# EAGLE library part MIKROBUS_TH (library mikroBUS_TH)
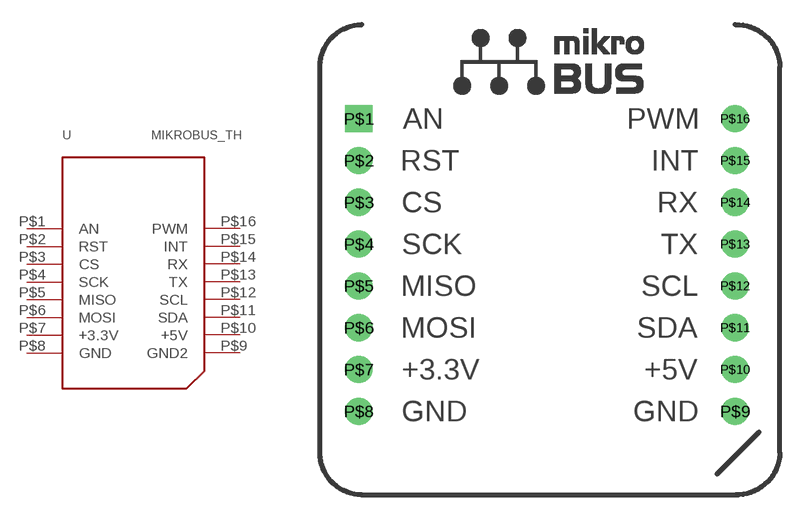
[diagram p0: symbol with the pads of MIKROBUS_TH; footprint MIKROBUS_TH]

Designator prefix -

## MIKROBUS_TH  [MIKROBUS_TH]
P$1  AN
P$2  RST
P$3  CS
P$4  SCK
P$5  MISO
P$6  MOSI
P$7  +3.3V
P$8  GND
P$9  GND2
P$10  +5V
P$11  SDA
P$12  SCL
P$13  TX
P$14  RX
P$15  INT
P$16  PWM

## Footprint MIKROBUS_TH (pad centres in mm)
drill 0.889 pad 1.651 square: P$1 1.27,0
drill 0.889 pad 1.651: P$2 1.27,-2.54; P$3 1.27,-5.08; P$4 1.27,-7.62; P$5 1.27,-10.16; P$6 1.27,-12.7; P$7 1.27,-15.24; P$8 1.27,-17.78; P$9 24.13,-17.78; P$10 24.13,-15.24; P$11 24.13,-12.7; P$12 24.13,-10.16; P$13 24.13,-7.62; P$14 24.13,-5.08; P$15 24.13,-2.54; P$16 24.13,0